# Altium schematic symbol library SM340AF.SchLib: 1 symbol
Pins are listed as number, name and electrical type; pins without a type are passive.

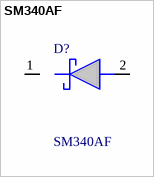
[diagram p0: symbol SM340AF]

## SM340AF
designator D?
Diode Schottky 40V 3A 2-Pin SMA-FL T/R; Manufacturer_Name: LRC; Geometry.Height: 1.2mm; Manufacturer_Part_Number: SM340AF; Mouser Part Number: *; Mouser Price/Stock: *; Arrow Part Number: *; Arrow Price/Stock: *; Datasheet Link: https://datasheet.lcsc.com/lcsc/1912111437_LRC-SM340AF_C354996.pdf
footprint SODFL4625X120N
pins: 1 K, 2 A